# Altium schematic symbol library lab_savchenko.SchLib: 4 symbols
Pins are listed as number, name and electrical type; pins without a type are passive.

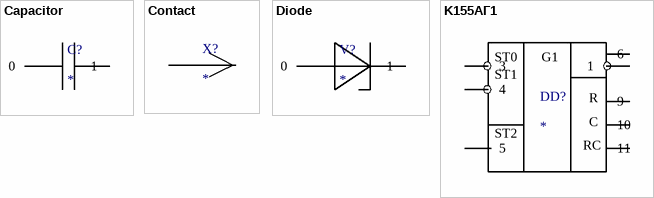
[diagram p0: symbols Capacitor to K155АГ1]

## Capacitor
designator C?
pins: ?1 0, ?2 1

## Contact
designator X?
pins: ?1, ?2

## Diode
designator V?
pins: ?1 0, ?2 1

## K155АГ1
designator DD?
pins: ?1 1, ?2 3, ?3 4, ?4 5, ?5 6, ?6 9, ?7 10, ?8 11
text: ST0; G1; ST1; R; C; ST2; RC